# Altium schematic symbol library IND.SchLib: 1 symbol
Pins are listed as number, name and electrical type; pins without a type are passive.

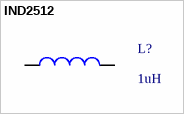
[diagram p0: symbol IND2512]

## IND2512
designator L?, comment 1uH
IND2512
footprint IND12*12*7
footprint 0_25 W
footprint R1206
footprint CAP0805
pins: 1, 2